# Altium footprint library 63189773.PcbLib: 1 footprints
Each footprint in its own frame and in the unit in brackets; x right, y up, seen from the top. Pads: shape width x height; smd on the part's side, far side on the other; paste and mask are expansions set on the pad; w line width, h text height; cw(c..) or ccw(c..) is an arc to the next point about the centre after c.
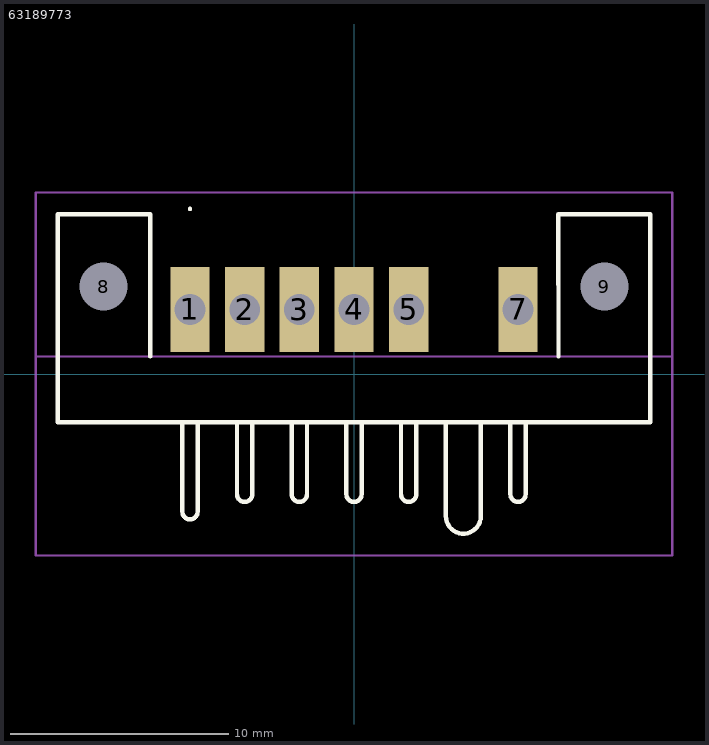
[diagram p0: the footprint, top view; thin cyan lines are the x and y axes]

## 63189773 [mm]
pads (8):
  rect 1.8x3.9 hole 1.4: 1(-7.5,2.95) 2(-5,2.95) 3(-2.5,2.95) 4(0,2.95) 5(2.5,2.95) 7(7.5,2.95)
  round 1.1 hole 2.2 unplated: 8(-11.45,4) 9(11.45,4)
Top Overlay:
  lines w0.1: -7.5,7.5 cw(c-7.5,7.55) -7.5,7.6 ; -7.5,7.5 -7.5,7.5 ; -7.5,7.5 ccw(c-7.5,7.55) -7.5,7.6 ; -7.5,7.6 -7.5,7.6
  lines w0.2: -9.312,0.8 -9.312,7.3 -13.55,7.3 -13.55,-2.2 13.55,-2.2 13.55,7.3 9.342,7.3 9.35,0.8 ; -7.85,-2.2 -7.85,-6.3 ; -7.15,-2.2 -7.15,-6.3 cw(c-7.5,-6.3) -7.85,-6.3 ; -5.35,-2.2 -5.35,-5.5 ; -4.65,-2.2 -4.65,-5.5 cw(c-5,-5.5) -5.35,-5.5 ; -2.85,-2.2 -2.85,-5.5 ; -2.15,-2.2 -2.15,-5.5 cw(c-2.5,-5.5) -2.85,-5.5 ; -0.35,-2.2 -0.35,-5.5 ; 0.35,-2.2 0.35,-5.5 cw(c0,-5.5) -0.35,-5.5 ; 2.15,-2.2 2.15,-5.5 ; 2.85,-2.2 2.85,-5.5 cw(c2.5,-5.5) 2.15,-5.5 ; 4.2,-2.2 4.2,-6.5 ; 5.8,-2.2 5.8,-6.5 cw(c5,-6.5) 4.2,-6.5 ; 7.15,-2.2 7.15,-5.5 ; 7.85,-2.2 7.85,-5.5 cw(c7.5,-5.5) 7.15,-5.5 ; -7.85,-6.3 -7.85,-6.3 ; -5.35,-5.5 -5.35,-5.5 ; -2.85,-5.5 -2.85,-5.5 ; -0.35,-5.5 -0.35,-5.5 ; 2.15,-5.5 2.15,-5.5 ; 4.2,-6.5 4.2,-6.5 ; 7.15,-5.5 7.15,-5.5
Mechanical 15:
  lines w0.1: -7.85,-2.2 -7.85,-6.3 ; -7.15,-2.2 -7.15,-6.3 cw(c-7.5,-6.3) -7.85,-6.3 ; -5.35,-2.2 -5.35,-5.5 ; -4.65,-2.2 -4.65,-5.5 cw(c-5,-5.5) -5.35,-5.5 ; -2.85,-2.2 -2.85,-5.5 ; -2.15,-2.2 -2.15,-5.5 cw(c-2.5,-5.5) -2.85,-5.5 ; -0.35,-2.2 -0.35,-5.5 ; 0.35,-2.2 0.35,-5.5 cw(c0,-5.5) -0.35,-5.5 ; 2.15,-2.2 2.15,-5.5 ; 2.85,-2.2 2.85,-5.5 cw(c2.5,-5.5) 2.15,-5.5 ; 4.2,-2.2 4.2,-6.5 ; 5.8,-2.2 5.8,-6.5 cw(c5,-6.5) 4.2,-6.5 ; 7.15,-2.2 7.15,-5.5 ; 7.85,-2.2 7.85,-5.5 cw(c7.5,-5.5) 7.15,-5.5 ; -7.85,-6.3 -7.85,-6.3 ; -5.35,-5.5 -5.35,-5.5 ; -2.85,-5.5 -2.85,-5.5 ; -0.35,-5.5 -0.35,-5.5 ; 2.15,-5.5 2.15,-5.5 ; 4.2,-6.5 4.2,-6.5 ; 7.15,-5.5 7.15,-5.5 ; -13.55,-2.2 0,-2.2 13.55,-2.2 13.55,7.3 9.342,7.3 9.35,0.8 -9.312,0.8 -9.312,7.3 -13.55,7.3 -13.55,-2.2
Mechanical 20:
  lines w0.1: -14.55,-8.3 14.55,-8.3 14.55,8.3 -14.55,8.3 -14.55,-8.3
Mechanical 21:
  lines w0.1: -14.55,0.8 14.55,0.8 14.55,8.3 -14.55,8.3 -14.55,0.8